# Altium footprint library VREG_LM2596S-3.3.PcbLib: 1 footprints
Each footprint in its own frame and in the unit in brackets; x right, y up, seen from the top. Pads: shape width x height; smd on the part's side, far side on the other; paste and mask are expansions set on the pad; w line width, h text height; cw(c..) or ccw(c..) is an arc to the next point about the centre after c.
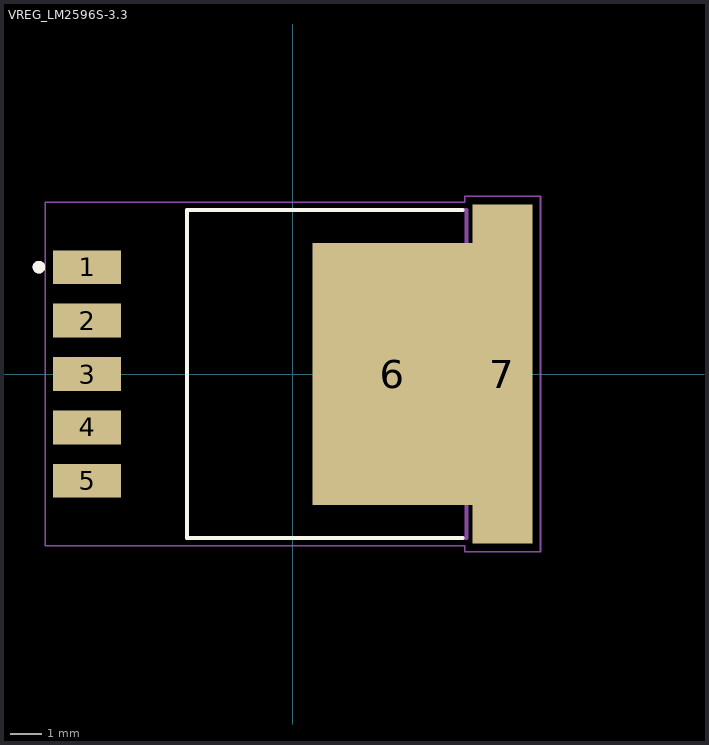
[diagram p0: the footprint, top view; thin cyan lines are the x and y axes]

## VREG_LM2596S-3.3 [mm]
height 4.65
pads (7):
  rect 2.16x1.07 smd: 1(-6.545,3.4) 2(-6.545,1.7) 3(-6.545,0) 4(-6.545,-1.7) 5(-6.545,-3.4)
  rect 5.08x8.33 smd paste-5: 6(3.175,0)
  rect 1.91x10.8 smd paste-6: 7(6.67,0)
Top Overlay:
  circle w0.2: c-8.075,3.4 r0.1
  lines w0.127: 5.402,-5.21 -3.37,-5.21 -3.37,5.21 5.402,5.21
Top Paste:
  region: 4.925,-0.61 3.335,-0.61 3.335,0.61 4.925,0.61
  region: 2.595,-0.61 1.005,-0.61 1.005,0.61 2.595,0.61
  region: 7.255,-0.61 5.665,-0.61 5.665,0.61 7.255,0.61
  region: 2.595,1.05 1.005,1.05 1.005,2.27 2.595,2.27
  region: 2.595,2.71 1.005,2.71 1.005,3.93 2.595,3.93
  region: 4.925,1.05 3.335,1.05 3.335,2.27 4.925,2.27
  region: 4.925,2.71 3.335,2.71 3.335,3.93 4.925,3.93
  region: 7.255,1.05 5.665,1.05 5.665,2.27 7.255,2.27
  region: 7.255,2.71 5.665,2.71 5.665,3.93 7.255,3.93
  region: 2.595,-2.27 1.005,-2.27 1.005,-1.05 2.595,-1.05
  region: 2.595,-3.93 1.005,-3.93 1.005,-2.71 2.595,-2.71
  region: 4.925,-2.27 3.335,-2.27 3.335,-1.05 4.925,-1.05
  region: 4.925,-3.93 3.335,-3.93 3.335,-2.71 4.925,-2.71
  region: 7.255,-2.27 5.665,-2.27 5.665,-1.05 7.255,-1.05
  region: 7.255,-3.93 5.665,-3.93 5.665,-2.71 7.255,-2.71
Assembly Top:
  circle w0.2: c-8.075,3.4 r0.1
  lines w0.127: -3.37,-5.21 -3.37,5.21 5.53,5.21 5.53,-5.21 -3.37,-5.21
Courtyard Top:
  lines w0.05: -7.88,-5.46 -7.88,5.46 5.465,5.46 5.465,5.65 7.88,5.65 7.88,-5.65 5.465,-5.65 5.465,-5.46 -7.88,-5.46
3D body "step_temp.STEP": height 4.65, standoff -0.15, extent -7.175,-5.08 7.175,5.08